# Altium schematic symbol library Schematics.SchLib: 19 symbols
Pins are listed as number, name and electrical type; pins without a type are passive.

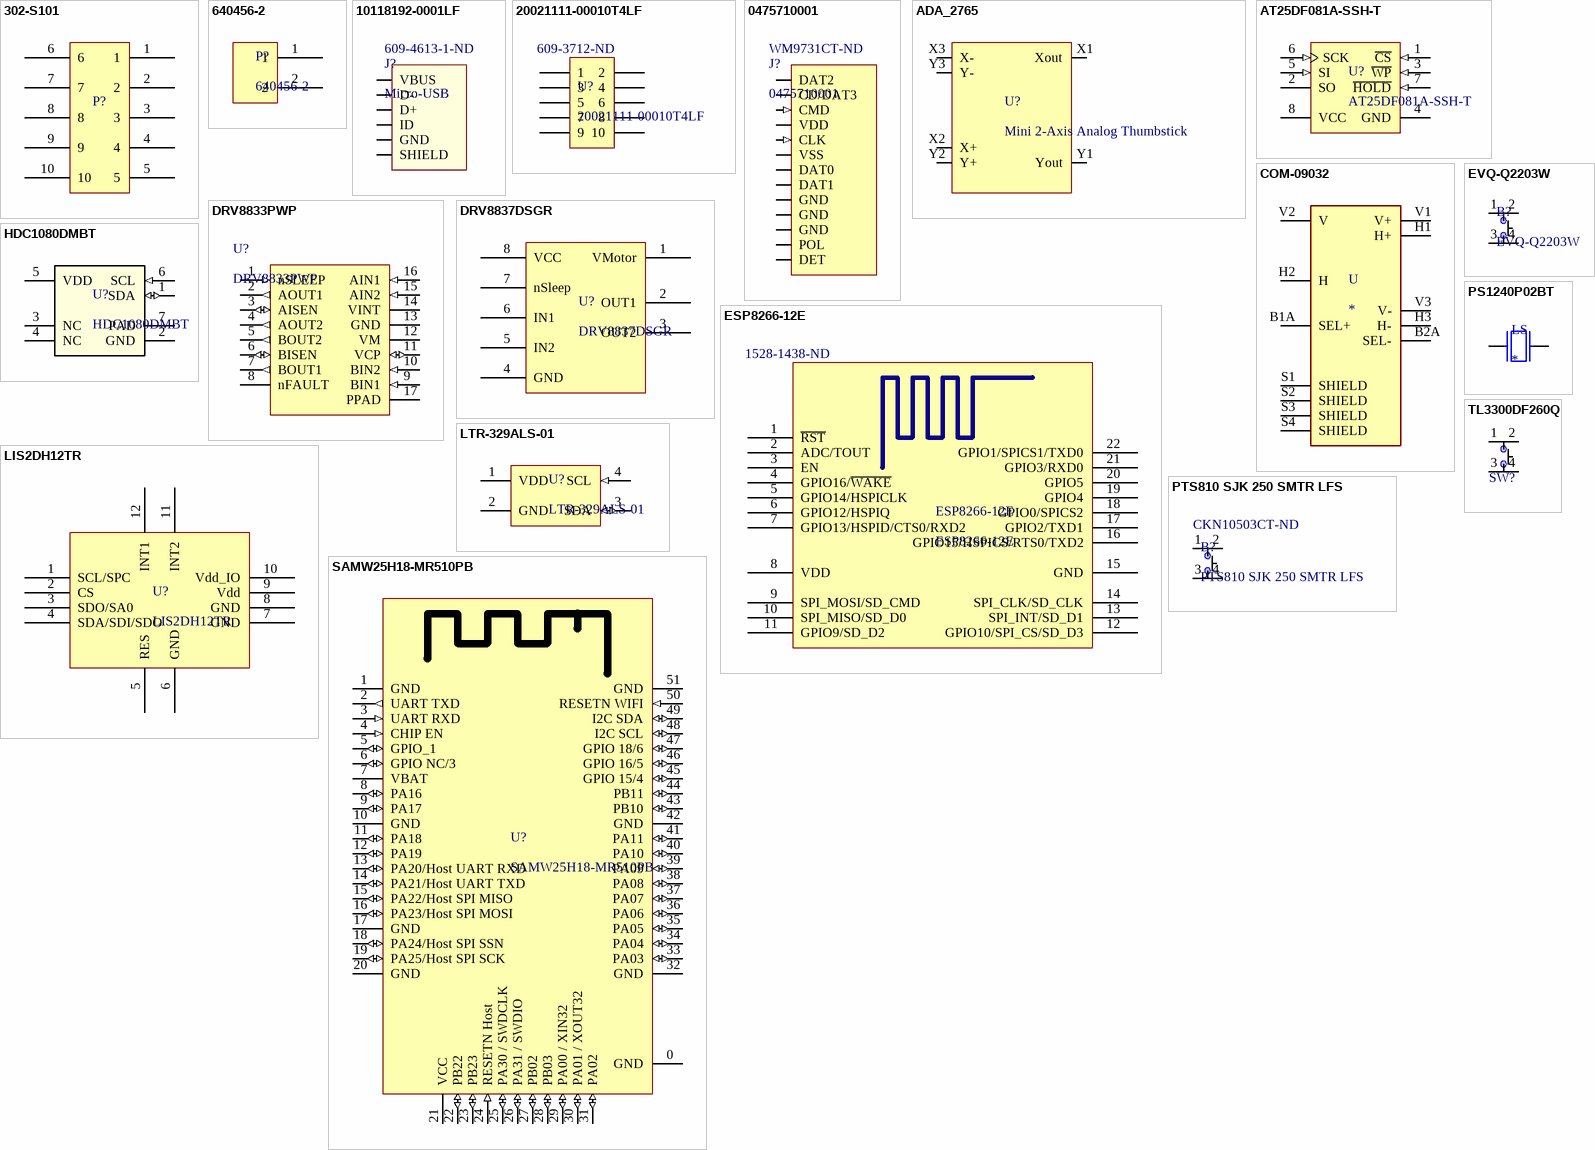
[diagram p0: symbols 302-S101 to TL3300DF260Q]

## 302-S101
designator P?  (value not drawn)
10 Positions Header, Shrouded Connector 0.100" (2.54mm) Through Hole Gold; Manufacturer: On-Shore Technology; Number of Positions: 10; Connector Type: Male Pin; Pitch: 0.1inch; Supplier 1: Digi-Key; Manufacturer Part Number: 302-S101; Stock 1: 89519; Pricing 1: 1=0.28, 10=0.263, 100=0.1838, 500=0.1575, 1000=0.1313, 5000=0.1125, 10000=0.105 (USD); Mount: Through Hole; Case/Package: 100; Colour: Black; Contact Plating: Gold; Number of Rows: 2; Packaging: Tray; Termination: Solder; Row Spacing: 0.1inch; ComponentLink1URL: https://datasheet.ciiva.com/732/302-sxxx-732946.pdf; ComponentLink1Description: https://datasheet.ciiva.com/732/302-sxxx-732946.pdf; Supplier Part Number 1: ED1543-ND
footprint 302-S101 (10 Positions Header, Shrouded Connector 0.100" (2.54mm) Through Hole Gold)
pins: 1, 2, 3, 4, 5, 6, 7, 8, 9, 10

## 640456-2
designator P?
CONN HEADER VERT 2POS .100 TIN; Manufacturer: TE Connectivity; Underplate Material: Nickel; Connector Type: Plug,Pin,Header; Contact Resistance: 6mR; Max Current Rating: 5A; Max Voltage Rating (AC): 250V; Number of Positions: 2; Backwall/Post Interruptions: No (Without); Connector System: Wire-to-Board; Plating Thickness: 3.81um; PCB Mount Retention: Without; Gender: Male; Contact Style: Straight; PCB Mounting Orientation: Vertical; Pitch: 2.54mm; Mating Post Length: 7.49mm; PCB Thickness: 0.063inch; Tail Length: 3.56mm; Approvals: CSA; Supplier 1: Digi-Key; Manufacturer Part Number: 640456-2; Stock 1: 141304; Pricing 1: 1=0.12, 10=0.117, 100=0.0724, 500=0.0599, 1000=0.0524, 5000=0.0449, 10000=0.0437 (USD); Mount: Through Hole; Colour: White,Natural,Beige; Contact Plating: Tin; Contact Material: Copper Alloy; Housing Colour: Natural; Housing Material: Polyester; Contact Shape: Square; Min Operating Temperature: -67°C; Max Operating Temperature: 221°C; Package Quantity: 5000; Packaging: Bulk; Termination: Solder; Number of Rows: 1; Fastening Type: Friction; Contact Gender: Male; Voltage Rating (AC): 250V; Number of Contacts: 2; Orientation: Straight; Contact Retention: No (Without); Mating Alignment: No (Without); Mating Retention: No (Without); PCB Mount Alignment: No (Without); Panel Mount Retention: No (Without); Sealable: No (Without); Strain Relief: No (Without); Current Rating: 5A; Number of Poles: 2; Voltage Rating: 250V; Working Voltage: 250V; Length: 5.08mm; Height: 7.87mm; Depth: 5.72mm; Lead Pitch: 2.54mm; Contact Mating Length: 0.295inch; Termination Post Length: 3.56mm; Radiation Hardening: No; ELV: Compliant; Lead Free: Lead Free; Flammability Rating: UL94 V-0; REACH SVHC: No SVHC; ComponentLink1URL: https://datasheet.ciiva.com/709/eng-cd-640456-w1-709680.pdf; ComponentLink1Description: https://datasheet.ciiva.com/709/eng-cd-640456-w1-709680.pdf; ComponentLink2URL: https://datasheet.ciiva.com/3118/eng-ds-82056-mta-0608-3118497.pdf; ComponentLink2Description: https://datasheet.ciiva.com/3118/eng-ds-82056-mta-0608-3118497.pdf; ComponentLink3URL: https://datasheet.ciiva.com/19462/613931-19462481.pdf; ComponentLink3Description: https://datasheet.ciiva.com/19462/613931-19462481.pdf; ComponentLink4URL: https://datasheet.ciiva.com/14156/04384301-14156820.pdf; ComponentLink4Description: https://datasheet.ciiva.com/14156/04384301-14156820.pdf; ComponentLink5URL: https://datasheet.ciiva.com/7128/1866390-7128742.pdf; ComponentLink5Description: https://datasheet.ciiva.com/7128/1866390-7128742.pdf; ComponentLink6URL: https://datasheet.ciiva.com/16401/eng-ds-82056-mta-0608-16401289.pdf; ComponentLink6Description: https://datasheet.ciiva.com/16401/eng-ds-82056-mta-0608-16401289.pdf; ComponentLink7URL: https://datasheet.ciiva.com/16505/eng-ds-82056-mta-0608-16505419.pdf; ComponentLink7Description: https://datasheet.ciiva.com/16505/eng-ds-82056-mta-0608-16505419.pdf; ComponentLink8URL: https://datasheet.ciiva.com/25617/0900766b80027008-25617244.pdf; ComponentLink8Description: https://datasheet.ciiva.com/25617/0900766b80027008-25617244.pdf; ComponentLink9URL: https://datasheet.ciiva.com/11746/0900766b80eb7fdd-11746365.pdf; ComponentLink9Description: https://datasheet.ciiva.com/11746/0900766b80eb7fdd-11746365.pdf; Supplier Part Number 1: A1921-ND
footprint 640456-2 (CONN HEADER VERT 2POS .100 TIN)
pins: 1, 2

## 10118192-0001LF
designator J?, comment Micro-USB  Supplier Part Number 1: 609-4613-1-ND
CONN USB MICRO B RECPT SMT R/A; HelpURL: http://portal.fciconnect.com/Comergent//fci/drawing/10118192.pdf; Supplier 1: Digi-Key
footprint 10118192-0001LF
pins: 1 VBUS, 2 D-, 3 D+, 4 ID, 5 GND, 6 SHIELD

## 20021111-00010T4LF
designator U?  Supplier Part Number 1: 609-3712-ND
CONN HEADER 10POS UNSHD VERT T/H; Manufacturer: Amphenol / FCI; Stack Height: 2.5 mm; Number of Positions / Contacts: 10; Brand: FCI; Pitch: 1.27 mm; Mounting Angle: Vertical; Current Rating: 10 A; Mating Post Length: 3.05 mm; Voltage Rating: 125 V; Manufacturer Part Number: 20021111-00010T4LF; Mounting Style: Through Hole; Product Category: Headers & Wire Housings; RoHS: Details; Series: Minitek; Product Type: Headers; Type: Unshrouded; Number of Positions: 10; Number of Rows: 2; Contact Plating: Gold; Housing Material: Plastic; Termination Style: Through Hole; Contact Material: Nickel; Packaging: Tube; Factory Pack Quantity: 93; Termination Post Length: 2.3 mm; ComponentLink1URL: https://datasheet.ciiva.com/1433/1079612-1433267.pdf; ComponentLink1Description: https://datasheet.ciiva.com/1433/1079612-1433267.pdf; ComponentLink2URL: https://datasheet.ciiva.com/409/20021111-409158.pdf; ComponentLink2Description: https://datasheet.ciiva.com/409/20021111-409158.pdf; ComponentLink3URL: https://datasheet.ciiva.com/5131/20021111-5131386.pdf; ComponentLink3Description: https://datasheet.ciiva.com/5131/20021111-5131386.pdf; ComponentLink4URL: https://datasheet.ciiva.com/9465/20021111-9465402.pdf; ComponentLink4Description: https://datasheet.ciiva.com/9465/20021111-9465402.pdf; Supplier 1: Digi-Key
footprint 20021111-00010T4LF (CONN HEADER 10POS UNSHD VERT T/H)
pins: 1, 2, 3, 4, 5, 6, 7, 8, 9, 10

## 0475710001
designator J?  Supplier Part Number 1: WM9731CT-ND
CONN MICRO SD CARD PUSH-PULL R/A; HelpURL: http://www.molex.com/pdm_docs/sd/475710001_sd.pdf; Supplier 1: Digi-Key
footprint 0475710001
pins: 1 DAT2 (io), 2 CD/DAT3 (io), 3 CMD (in), 4 VDD (power), 5 CLK (in), 6 VSS (power), 7 DAT0 (io), 8 DAT1 (io), 9 GND, 10 GND, 11 GND, 12 POL, 13 DET

## ADA_2765
designator U?, comment Mini 2-Axis Analog Thumbstick
Manufacturer: Adafruit Industries; Manufacturer Part Number: 2765; Resistance: 10kR; Supplier 1: Digi-Key; Supplier Part Number 1: 1528-1730-ND; RoHS: Yes; Description: Mini 2-Axis Analog Thumbstick; Stock 1: 673; Pricing 1: 1=2.50000 (USD); Mount: Through Hole; Packaging: Bulk; Length: 0.707inch; Width: 0.697inch; Height: 0.472inch; ComponentLink1URL: https://media.digikey.com/pdf/Data%20Sheets/Adafruit%20PDFs/2765_Web.pdf?src-supplier=Digi-Key; ComponentLink1Description: https://media.digikey.com/pdf/Data%20Sheets/Adafruit%20PDFs/2765_Web.pdf?src-supplier=Digi-Key
footprint ADA_2765
pins: X1 Xout, X2 X+, X3 X-, Y1 Yout, Y2 Y+, Y3 Y-

## AT25DF081A-SSH-T
designator U?
IC FLASH 8MBIT 100MHZ 8SOIC; Manufacturer: Adesto Technologies; Memory Size: 8M (4096 pages x 256 bytes); Interface: SPI, RapidS; Voltage - Supply: 2.7 V ~ 3.6 V; Rad Hard: No; Manufacturer Part Number: AT25DF081A-SSH-T; RoHS: RoHS Compliant; Category: Integrated Circuits (ICs); Packaging: Cut Tape (CT); Part Status: Active; Format - Memory: FLASH; Memory Type: FLASH; Speed: 100MHz; Operating Temperature: -40°C ~ 85°C (TC); Package / Case: 8-SOIC (0.154", 3.90mm Width); Supplier Device Package: 8-SOIC; ComponentLink1URL: http://www.adestotech.com/wp-content/uploads/doc8715.pdf; ComponentLink1Description: http://www.adestotech.com/wp-content/uploads/doc8715.pdf; Supplier 1: Digikey; Stock 1: 2550; Pricing 1: 1=1.18, 10=1.081, 25=1.0516, 50=1.0462, 100=0.9352, 250=0.9324, 500=0.9185, 1000=0.8791 (USD); Package: 8SOIC; ComponentLink2URL: https://datasheet.ciiva.com/14084/doc8715-14084443.pdf; ComponentLink2Description: https://datasheet.ciiva.com/14084/doc8715-14084443.pdf; ComponentLink3URL: https://datasheet.ciiva.com/26910/getdatasheetpartid-730210-26910875.pdf; ComponentLink3Description: https://datasheet.ciiva.com/26910/getdatasheetpartid-730210-26910875.pdf; ComponentLink4URL: https://datasheet.ciiva.com/12251/doc8715-12251468.pdf; ComponentLink4Description: https://datasheet.ciiva.com/12251/doc8715-12251468.pdf; Supplier Part Number 1: 1265-1166-1-ND
footprint AT25DF081A-SSH-T (IC FLASH 8MBIT 100MHZ 8SOIC)
pins: 1 ~{CS} (in), 2 SO (hiz), 3 ~{WP} (in), 4 GND (power), 5 SI (in), 6 SCK (in), 7 ~{HOLD} (in), 8 VCC (power)

## COM-09032
designator U
Joystick, 2 - Axis Analog _Resistive_ Output; MF: SparkFun Electronics; MP: COM-09032; SnapEDA_Link: https://www.snapeda.com/parts/COM-09032/SparkFun%20Electronics/view-part/888157/?ref=snap; Availability: Unavailable; Value: *; Price: None; Package: SparkFun Electronics
footprint XDCR_COM-09032
pins: B1A SEL+, B2A SEL-, H1 H+, H2 H, H3 H-, S1 SHIELD, S2 SHIELD, S3 SHIELD, S4 SHIELD, V1 V+, V2 V, V3 V-

## DRV8833PWP
designator U?
IC MOTOR DRIVER PAR 16HTSSOP; Manufacturer: Texas Instruments; Min Supply Voltage: 2.7V; Output Current: 1.5A; Nominal Supply Current: 3mA; Max Output Current: 2A; Interface: PWM; Number of Outputs: 2; Max Collector Current: 700mA; Collector Emitter Voltage (VCEO): 10.8V; Switching Frequency: 50KHz; Motor Type: Stepper; Supplier 1: Digi-Key; Manufacturer Part Number: DRV8833PWP; Stock 1: 363; Pricing 1: 1=2.87, 10=2.576, 100=2.0704, 500=1.701, 1000=1.4094 (USD); Case/Package: SOP; Number of Pins: 16; Min Operating Temperature: -40°C; Max Operating Temperature: 85°C; Package Quantity: 90; Packaging: Rail/Tube; Output Current per Channel: 1.5A; RMS Current (Irms): 1.5A; Length: 5.1mm; Height: 1.05mm; Width: 4.5mm; Radiation Hardening: No; Lead Free: Lead Free; ComponentLink1URL: https://datasheet.ciiva.com/3228/drv8833-3228715.pdf; ComponentLink1Description: https://datasheet.ciiva.com/3228/drv8833-3228715.pdf; ComponentLink2URL: https://datasheet.ciiva.com/1959/drv8833-1959822.pdf; ComponentLink2Description: https://datasheet.ciiva.com/1959/drv8833-1959822.pdf; ComponentLink3URL: https://datasheet.ciiva.com/15109/getdatasheetpartid-518475-15109582.pdf; ComponentLink3Description: https://datasheet.ciiva.com/15109/getdatasheetpartid-518475-15109582.pdf; Supplier Part Number 1: 296-29394-5-ND
footprint DRV8833PWP (2A Low Voltage Dual Brushed DC or Single Bipolar Stepper Motor Driver (PWM Ctrl) 16-HTSSOP -40 to 85)
pins: 1 nSLEEP (in), 2 AOUT1 (out), 3 AISEN (io), 4 AOUT2 (out), 5 BOUT2 (out), 6 BISEN (io), 7 BOUT1 (out), 8 nFAULT (oc), 9 BIN1 (in), 10 BIN2 (in), 11 VCP (io), 12 VM (power), 13 GND (power), 14 VINT (power), 15 AIN2 (in), 16 AIN1 (in), 17 PPAD

## DRV8837DSGR
designator U?
Half Bridge (2) Driver DC Motors, Solenoids NMOS 8-WSON (2x2); Manufacturer: Texas Instruments (TI); Reference Design Library: DRV8837EVM: 1.8A H-Bridge, 1.8 ~ 11V In; PCN Packaging: Multiple Devices Packing 23/Jul/2013; EDA / CAD Models: Download from Accelerated Designs; Interface: PWM; Load Type: Inductive; Rds On (Typ): 280 mOhm LS + HS; Current - Peak Output: 1.8A; Voltage - Supply: 1.8 V ~ 7 V; Voltage - Load: 0 V ~ 11 V; Fault Protection: Current Limiting, Over Temperature, Short Circuit, UVLO; Online Catalog: Full, Half-Bridge Drivers; Other Names: 296-34806-6; Manufacturer Part Number: DRV8837DSGR; Standard Package: 1; Category: Integrated Circuits (ICs); Family: PMIC - Full, Half-Bridge Drivers; Packaging: Digi-Reel®; Output Configuration: Half Bridge (2); Applications: DC Motors, Solenoids; Technology: NMOS; Operating Temperature: -40°C ~ 150°C (TJ); Mounting Type: Surface Mount; Package / Case: 8-WFDFN Exposed Pad; Supplier Device Package: 8-WSON (2x2); ComponentLink1URL: https://datasheet.ciiva.com/6602/drv8837-6602821.pdf; ComponentLink1Description: https://datasheet.ciiva.com/6602/drv8837-6602821.pdf; ComponentLink2URL: https://datasheet.ciiva.com/15109/getdatasheetpartid-543738-15109646.pdf; ComponentLink2Description: https://datasheet.ciiva.com/15109/getdatasheetpartid-543738-15109646.pdf; RoHS: RoHS Compliant; Part Status: Active; Current - Output / Channel: -; Features: -; ComponentLink3URL: http://www.ti.com/lit/ds/symlink/drv8837.pdf; ComponentLink3Description: http://www.ti.com/lit/ds/symlink/drv8837.pdf; Supplier 1: Digikey; Stock 1: 15477; Pricing 1: 1=1.38, 10=1.231, 100=0.9599, 500=0.7938, 1000=0.5063 (USD); Supplier Part Number 1: 296-34806-6-ND
footprint DRV8837DSGR
pins: 1 VMotor, 2 OUT1, 3 OUT2, 4 GND, 5 IN2, 6 IN1, 7 nSleep, 8 VCC

## ESP8266-12E
designator ESP8266-12E  Supplier Part Number 1: 1528-1438-ND
Manufacturer: Adafruit Industries; Manufacturer Part Number: 2491; Frequency: 2.4GHz; Data Rate: 72.2Mbps; Sensitivity: -91dBm; Interface: I2C,SPI,UART; Current - Receiving: 56mA; Current - Transmitting: 170mA; Supplier 1: Digi-Key; Stock 1: 713; Pricing 1: 1=6.95, 10=6.255 (USD); Case/Package: Module; Min Operating Temperature: -40°C; Max Operating Temperature: 125°C; Packaging: Bulk
footprint ESP8266-12E
pins: 1 ~{RST} "Reset", 2 ADC/TOUT "ADC Input Or TOUT Output", 3 EN "Chip enable", 4 GPIO16/~{WAKE} "GPIO16 or Deep-Sleep Wakeup", 5 GPIO14/HSPICLK "GPIO14 or SPI CLK", 6 GPIO12/HSPIQ "GPIO12 or SPIQ", 7 GPIO13/HSPID/CTS0/RXD2 "GPIO13 or SPID", 8 VDD "Power supply", 9 SPI_MOSI/SD_CMD "GPIO14 or SPI CLK", 10 SPI_MISO/SD_D0 "GPIO12 or SPIQ", 11 GPIO9/SD_D2 "GPIO13 or SPID", 12 GPIO10/SPI_CS/SD_D3 "GPIO15 or SPICS", 13 SPI_INT/SD_D1 "GPIO2 or TX", 14 SPI_CLK/SD_CLK "GPIO0 or SPICS2", 15 GND "Power ground", 16 GPIO15/HSPICS/RTS0/TXD2 "GPIO15 or SPICS", 17 GPIO2/TXD1 "GPIO2 or TX", 18 GPIO0/SPICS2 "GPIO0 or SPICS2", 19 GPIO4 "GPIO5", 20 GPIO5 "GPIO4", 21 GPIO3/RXD0 "GPIO3 or UART RXD", 22 GPIO1/SPICS1/TXD0 "GPIO1 or UART TXD"

## EVQ-Q2203W
designator B?
SWITCH TACTILE SPST-NO 0.02A 15V; Manufacturer: Panasonic Electronic Components; Switch Function: Off-Mom; Contact Rating @ Voltage: 0.02A @ 15VDC; Actuator Type: Standard; Actuator Height off PCB, Vertical: 3.10mm; Actuator Orientation: Top Actuated; Outline: 6.60mm x 6.00mm; Illumination: Non-Illuminated; Operating Force: 350gf; Switch Travel: 0.25mm; Mechanical Life: 100,000 Cycles; Supplier 1: Digi-Key; Manufacturer Part Number: EVQ-Q2203W; RoHS: RoHS Compliant; Category: Switches; Stock 1: 15024; Pricing 1: 1=0.3, 10=0.287, 25=0.2772, 50=0.2674, 100=0.2525, 250=0.2376, 500=0.2277, 1000=0.17325 (USD); Packaging: Cut Tape (CT); Part Status: Active; Circuit: SPST-NO; Mounting Type: Surface Mount; Actuator Length, Right Angle: -; Termination Style: J Lead; Illumination Type, Color: -; Illumination Voltage (Nominal): -; Ingress Protection: -; Features: Grounding Pin; Actuator Material: -; Operating Temperature: -40°C ~ 85°C; ComponentLink1URL: https://industrial.panasonic.com/cdbs/www-data/pdf/ATK0000/ATK0000CE28.pdf; ComponentLink1Description: https://industrial.panasonic.com/cdbs/www-data/pdf/ATK0000/ATK0000CE28.pdf; Supplier Part Number 1: P12964SCT-ND
footprint EVQ-Q2203W (SWITCH TACTILE SPST-NO 0.02A 15V, SOJ, 4-Leads, Body 6.00x6.60mm, Pitch 4.00mm, IPC Medium Density)
pins: 1 (power), 2 (power), 3 (power), 4 (power)

## HDC1080DMBT
designator U?
SENSOR HUMI/TEMP 3.3V I2C 2% SMD; Manufacturer: Texas Instruments (TI); Sensor Type: Humidity, Temperature; Humidity Range: 0 ~ 100% RH; Output Type: I²C; Output: 14b; Accuracy: ±2% RH; Response Time: 15s; Voltage - Supply: 2.7 V ~ 5.5 V; Supplier 1: Digikey; Manufacturer Part Number: HDC1080DMBT; Stock 1: 3989; Pricing 1: 1=3.39, 10=3.043, 25=2.8816, 100=2.4964 (USD); Category: Sensors, Transducers; Family: Humidity, Moisture Sensors; Series: -; Sensitivity: -; Mounting Type: Surface Mount; Operating Temperature: -20°C ~ 85°C; Supplier Part Number 1: 296-43864-1-ND
footprint HDC1080DMBT_PCB1 (SENSOR HUMI/TEMP 3.3V I2C 2% SMD)
footprint HDC1080DMBT_PCB2 (SENSOR HUMI/TEMP 3.3V I2C 2% SMD)
pins: 1 SDA (io), 2 GND (power), 3 NC, 4 NC, 5 VDD (power), 6 SCL (in), 7 PAD (power)

## LIS2DH12TR
designator U?
ACCEL 2-16G I2C/SPI 12LGA; Manufacturer: STMicroelectronics; Axis: X, Y, Z; Acceleration Range: ±2g, 4g, 8g, 16g; Sensitivity (LSB/g): 1000 (±2g) ~ 83 (±16g); Bandwidth: 0.5Hz ~ 672Hz; Output Type: I²C, SPI; Voltage - Supply: 1.71 V ~ 3.6 V; Number of Axis: 3; Interface Type: I2C, SPI; Maximum Frequency Response: 10 (SPI) MHz, 400 (SCL) kHz; Maximum Operating Supply Voltage: 3.6 V; Sensor Range: ±16 g, ±2 g, ±4 g, ±8 g; Frequency Response Range: 0 → 400 (SCL) kHz, Maximum of 10 (SPI) MHz; Minimum Operating Supply Voltage: 1.71 V; Minimum Frequency Response: 0 (SCL)kHz; Operating Supply Voltage Range: 1.71 → 3.6 V; Manufacturer Part Number: LIS2DH12TR; RoHS: RoHS Compliant; Category: Sensors, Transducers; Packaging: Cut Tape (CT); Part Status: Active; Type: Digital; Sensitivity (mV/g): -; Features: Adjustable Bandwidth, Selectable Scale, Sleep Mode, Temperature Sensor; Operating Temperature: -40°C ~ 85°C (TA); Mounting Type: Surface Mount; Package / Case: 12-VFLGA; Supplier Device Package: 12-LGA (2x2); ComponentLink1URL: http://www.st.com/content/ccc/resource/technical/document/datasheet/12/c0/5c/36/b9/58/46/f2/DM00091513.pdf/files/DM00091513.pdf/jcr:content/translations/en.DM00091513.pdf; ComponentLink1Description: http://www.st.com/content/ccc/resource/technical/document/datasheet/12/c0/5c/36/b9/58/46/f2/DM00091513.pdf/files/DM00091513.pdf/jcr:content/translations/en.DM00091513.pdf; Supplier 1: Digikey; Stock 1: 19141; Pricing 1: 1=1.6, 10=1.428, 100=1.1134, 500=0.9198, 1000=0.7262 (USD); Technology: Digital; Package Type: LGA; Pin Count: 12; Dimensions: 2.15 x 2.15 x 1mm; Length: 2.15mm; Width: 2.15mm; Height: 1mm; Maximum Operating Temperature: +85 °C; Operating Temperature Range: -40 → +85 °C; Minimum Operating Temperature: -40 °C; ComponentLink2URL: https://datasheet.ciiva.com/46423/1836729-46423946.pdf; ComponentLink2Description: https://datasheet.ciiva.com/46423/1836729-46423946.pdf; Supplier Part Number 1: 497-14851-1-ND
footprint LIS2DH12TR
pins: 1 SCL/SPC, 2 CS, 3 SDO/SA0, 4 SDA/SDI/SDO (power), 5 RES, 6 GND, 7 GND, 8 GND, 9 Vdd, 10 Vdd_IO (power), 11 INT2 (power), 12 INT1 (power)

## LTR-329ALS-01
designator U?
AMBIENT LIGHT PHOTO SENSOR; Manufacturer: Vishay / Lite-On; Proximity Detection: No; Output Type: I²C; Voltage - Supply: 2.4 V ~ 3.6 V; Supplier 1: Digikey; Manufacturer Part Number: LTR-329ALS-01; Stock 1: 12888; Pricing 1: 1=1.08, 5=1.046, 10=0.849, 25=0.7316, 50=0.6336, 100=0.5748, 500=0.4833, 1000=0.4311 (USD); Category: Sensors, Transducers; Family: Optical Sensors - Ambient Light, IR, UV Sensors; Series: -; Packaging: Tape &amp; Reel (TR); Type: Ambient; Wavelength: -; Operating Temperature: -30°C ~ 70°C; Mounting Type: Surface Mount; Package / Case: 4-VDFN; Supplier Device Package: 4-DFN-EP (2x2); Supplier Part Number 1: 160-2160-1-ND
footprint LTR-329ALS-01 (AMBIENT LIGHT PHOTO SENSOR Optical Sensor Ambient I²C 4-VDFN)
pins: 1 VDD (power), 2 GND (power), 3 SDA (io), 4 SCL (in)

## PS1240P02BT
designator LS
TDK - PS1240P02BT - BUZZER, PIEZO, 70DB, 12.2MM; Number of Terminals/Pins: 2; Frequency: 4kHz; Operating Supply Voltage: 3V; Washable: No; MP: PS1240P02BT; Availability: Unavailable; Package: 2020 TDK; MF: TDK; Value: *; Price: None; SnapEDA_Link: https://www.snapeda.com/parts/PS1240P02BT/TDK/view-part/53420/?ref=snap; Supplier 1: Digi-Key; Supplier Part Number 1: 445-2525-1-ND; Manufacturer: TDK; Manufacturer Part Number: PS1240P02BT; RoHS: Yes; Category: Audio Products; Stock 1: 31933; Pricing 1: 1=0.61000, 10=0.52500, 25=0.49120, 50=0.46580, 100=0.44110 (USD); Mount: Through Hole; Number of Pins: 2; Min Operating Temperature: -10°C; Max Operating Temperature: 70°C; Termination: PC Pins; Package Quantity: 1; Packaging: Tape and Reel; Voltage Rating (DC): 3V; Series: PS; Diameter: 12.2mm; Height: 6.5mm; Lead Free: Lead Free; RoHS Compliant: Yes; ComponentLink1URL: https://datasheet.ciiva.com/0/ef532-ps-112.pdf?src-supplier=Digi-Key; ComponentLink1Description: https://datasheet.ciiva.com/0/ef532-ps-112.pdf?src-supplier=Digi-Key; ComponentLink2URL: https://datasheet.ciiva.com/0/ef532-ps-111.pdf?src-supplier=Digi-Key; ComponentLink2Description: https://datasheet.ciiva.com/0/ef532-ps-111.pdf?src-supplier=Digi-Key; ComponentLink3URL: https://datasheet.ciiva.com/3306/ef532-ps-3306958.pdf?src-supplier=Avnet; ComponentLink3Description: https://datasheet.ciiva.com/3306/ef532-ps-3306958.pdf?src-supplier=Avnet; ComponentLink4URL: https://datasheet.ciiva.com/16225/ef532-ps-16225062.pdf?src-supplier=Onlinecomponents.com; ComponentLink4Description: https://datasheet.ciiva.com/16225/ef532-ps-16225062.pdf?src-supplier=Onlinecomponents.com
footprint PS1240P02BT (Buzzer)
pins: 1, 2

## PTS810 SJK 250 SMTR LFS
designator B?  Supplier Part Number 1: CKN10503CT-ND
SWITCH TACTILE SPST-NO 0.05A 16V Tactile Switch SPST-NO Top Actuated Surface Mount; Manufacturer: ITT /  C&K Components; Part # Aliases: Y97LT25B5DBFP; Operating Force: 2.6 N; Actuator: Oval; Current Rating: 50 mA; Voltage Rating DC: 16 VDC; Contact Form: SPST; Switch Function: OFF - (ON); Mounting Direction: Straight; Stem Height: 2.5 mm; Brand: C&K Components; Travel: 0.15 mm; Manufacturer Part Number: PTS810SJK250SMTRLFS; Product Category: Tactile Switches; RoHS: Details; Termination Style: J Form Lead; Mounting Style: SMD/SMT; Color: White; Packaging: Reel; Contact Plating: Silver; Operating Temperature Range: - 40 C to + 85 C; Series: PTS810; Factory Pack Quantity: 2900; ComponentLink1URL: https://datasheet.ciiva.com/18514/pts810-4mar13-18514061.pdf; ComponentLink1Description: https://datasheet.ciiva.com/18514/pts810-4mar13-18514061.pdf; ComponentLink2URL: https://datasheet.ciiva.com/18514/pts810-4mar13-18514062.pdf; ComponentLink2Description: https://datasheet.ciiva.com/18514/pts810-4mar13-18514062.pdf; ComponentLink3URL: https://datasheet.ciiva.com/18514/pts810-4mar13-18514063.pdf; ComponentLink3Description: https://datasheet.ciiva.com/18514/pts810-4mar13-18514063.pdf; Supplier 1: Digi-Key
footprint PTS810 SJK 250 SMTR LFS (SWITCH TACTILE SPST-NO 0.05A 16V)
pins: 1 (power), 2 (power), 3 (power), 4 (power)

## SAMW25H18-MR510PB
designator U?
RF TXRX MODULE WIFI TRACE ANT; Manufacturer: Atmel; Manufacturer Part Number: ATSAMW25H18-MR510PB; Protocol: 802.11b/g/n; Frequency: 2.4GHz; Data Rate: 65Mbps; Power - Output: 17dBm; Sensitivity: -95.5dBm; Serial Interfaces: SPI, UART; Antenna Type: Integrated, Trace; Memory Size: 256kB Flash, 32kB SRAM; Voltage - Supply: 2.7 V ~ 4.2 V; Category: RF/IF and RFID; Family: RF Transceiver Modules; Series: Xplained Pro; Packaging: Tray; RF Family/Standard: WiFi; Modulation: -; Current - Receiving: -; Current - Transmitting: -; Mounting Type: Surface Mount; Operating Temperature: -40°C ~ 85°C; Package / Case: Module; ComponentLink1URL: http://www.atmel.com/devices/ATSAMW25.aspx; ComponentLink1Description: http://www.atmel.com/devices/ATSAMW25.aspx; ComponentLink2URL: http://www.farnell.com/datasheets/1965115.pdf; ComponentLink2Description: http://www.farnell.com/datasheets/1965115.pdf; Supplier 1: Digikey; Stock 1: 120; Pricing 1: 1=19.14 (USD); Supplier Part Number 1: ATSAMW25H18-MR510PB-ND
footprint SAMW25H18-MR510PB
pins: 0 GND (power), 1 GND (power), 2 UART TXD (out), 3 UART RXD (in), 4 CHIP EN (in), 5 GPIO_1 (io), 6 GPIO NC/3 (io), 7 VBAT (power), 8 PA16 (io), 9 PA17 (io), 10 GND (power), 11 PA18 (io), 12 PA19 (io), 13 PA20/Host UART RXD (io), 14 PA21/Host UART TXD (io), 15 PA22/Host SPI MISO (io), 16 PA23/Host SPI MOSI (io), 17 GND (power), 18 PA24/Host SPI SSN (io), 19 PA25/Host SPI SCK (io), 20 GND (power), 21 VCC (power), 22 PB22 (io), 23 PB23 (io), 24 RESETN Host (in), 25 PA30 / SWDCLK (io), 26 PA31 / SWDIO (io), 27 PB02 (io), 28 PB03 (io), 29 PA00 / XIN32 (io), 30 PA01 / XOUT32 (io), 31 PA02 (io), 32 GND (power), 33 PA03 (io), 34 PA04 (io), 35 PA05 (io), 36 PA06 (io), 37 PA07 (io), 38 PA08 (io), 39 PA09 (io), 40 PA10 (io), 41 PA11 (io), 42 GND (power), 43 PB10 (io), 44 PB11 (io), 45 GPIO 15/4 (io), 46 GPIO 16/5 (io), 47 GPIO 18/6 (io), 48 I2C SCL (io), 49 I2C SDA (io), 50 RESETN WIFI (in), 51 GND (power)

## TL3300DF260Q
designator SW?  (value not drawn)
SWITCH TACTILE SPST-NO 0.05A 12V; Manufacturer: E-Switch; Mechanical Life: 100000Cycles; Operating Force: 260gf; Current Rating: 50mA; Illumination Type: Non-Illuminated; Throw Configuration: SPST; Switch Travel: 0.35mm; Supplier 1: Digi-Key; Manufacturer Part Number: TL3300DF260Q; Stock 1: 7332; Pricing 1: 1=0.55, 10=0.529, 25=0.5188, 50=0.4992, 100=0.4308, 250=0.3916 (USD); Case/Package: SMD/SMT; Contact Plating: Silver; Min Operating Temperature: -25°C; Max Operating Temperature: 70°C; Package Quantity: 1; Packaging: Tape and Reel; Voltage Rating (DC): 12V; Termination: Gull Wing; Lead Free: Lead Free; ComponentLink1URL: https://datasheet.ciiva.com/2901/n301104-2901040.pdf; ComponentLink1Description: https://datasheet.ciiva.com/2901/n301104-2901040.pdf; Supplier Part Number 1: EG4907CT-ND
footprint TL3300DF260Q (SWITCH TACTILE SPST-NO 0.05A 12V)
pins: 1, 2, 3, 4